# EAGLE library part EPM7032 (library altera)
EPM7032 MAX 7000 family
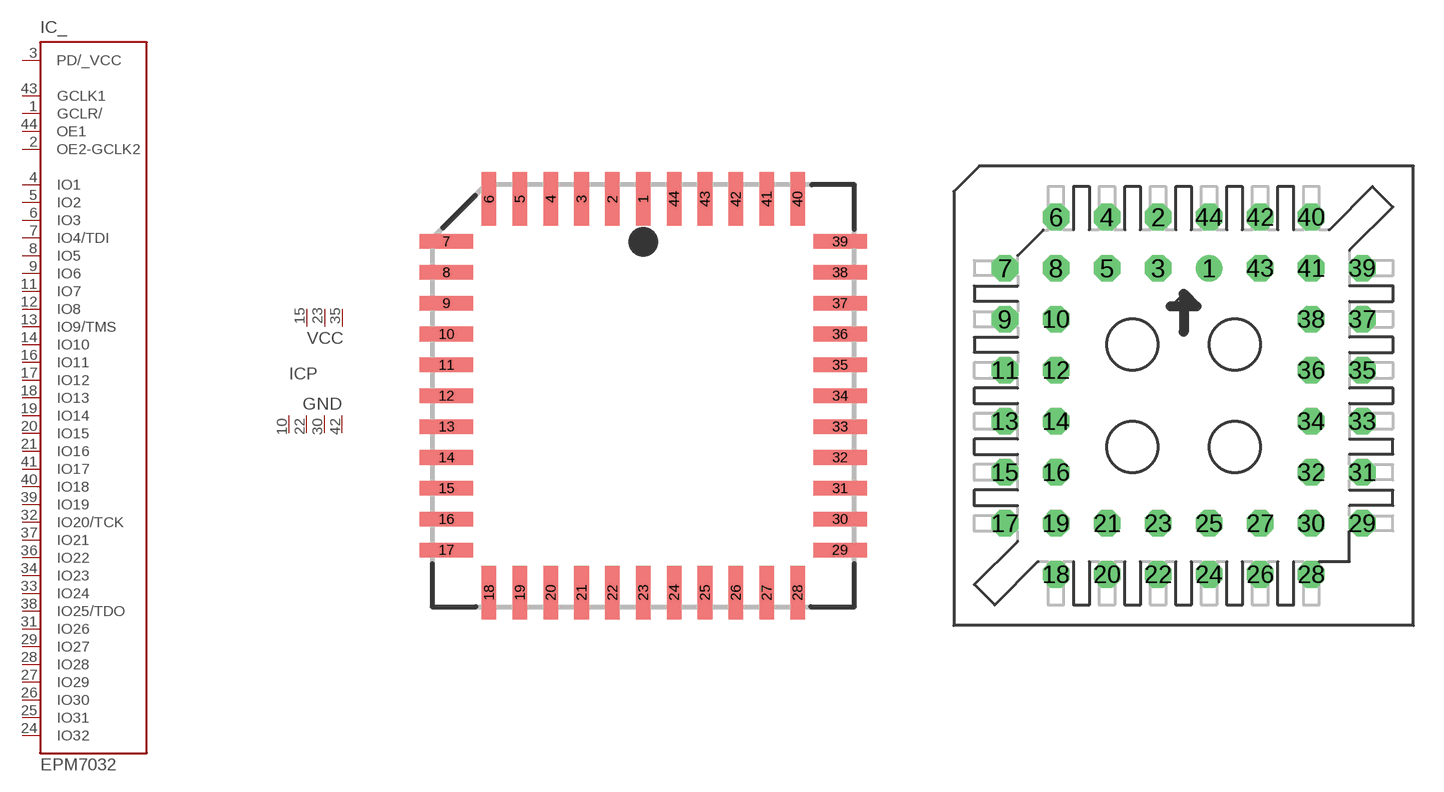
[diagram p0: symbol with the pads of PLCC44; footprints PLCC44, PLCC-S44]

Designator prefix IC; gates _=EPM7032 P=PWR3-4

## EPM7032J44  [PLCC44]
1  _:GCLR/  in
2  _:OE2-GCLK2  in
3  _:PD/_VCC  pas
4  _:IO1
5  _:IO2
6  _:IO3
7  _:IO4/TDI
8  _:IO5
9  _:IO6
10  P:GND  pwr
11  _:IO7
12  _:IO8
13  _:IO9/TMS
14  _:IO10
15  P:VCC  pwr
16  _:IO11
17  _:IO12
18  _:IO13
19  _:IO14
20  _:IO15
21  _:IO16
22  P:GND  pwr
23  P:VCC  pwr
24  _:IO32
25  _:IO31
26  _:IO30
27  _:IO29
28  _:IO28
29  _:IO27
30  P:GND  pwr
31  _:IO26
32  _:IO20/TCK
33  _:IO24
34  _:IO23
35  P:VCC  pwr
36  _:IO22
37  _:IO21
38  _:IO25/TDO
39  _:IO19
40  _:IO18
41  _:IO17
42  P:GND  pwr
43  _:GCLK1  in
44  _:OE1  in

## EPM7032S44  [PLCC-S44]
Pads as for PLCC44

## EPM7032T44  [TQFP44]
1  _:IO4/TDI
2  _:IO5
3  _:IO6
4  P:GND  pwr
5  _:IO7
6  _:IO8
7  _:IO9/TMS
8  _:IO10
9  P:VCC  pwr
10  _:IO11
11  _:IO12
12  _:IO13
13  _:IO14
14  _:IO15
15  _:IO16
16  P:GND  pwr
17  P:VCC  pwr
18  _:IO32
19  _:IO31
20  _:IO30
21  _:IO29
22  _:IO28
23  _:IO27
24  P:GND  pwr
25  _:IO26
26  _:IO20/TCK
27  _:IO24
28  _:IO23
29  P:VCC  pwr
30  _:IO22
31  _:IO21
32  _:IO25/TDO
33  _:IO19
34  _:IO18
35  _:IO17
36  P:GND  pwr
37  _:GCLK1  in
38  _:OE1  in
39  _:GCLR/  in
40  _:OE2-GCLK2  in
41  _:PD/_VCC  pas
42  _:IO1
43  _:IO2
44  _:IO3

## Footprint PLCC44 (pad centres in mm)
Plastic J-Lead Chip Carrier
smd 0.6 x 2.2: 1 0,8.1; 2 -1.27,8.1; 3 -2.54,8.1; 4 -3.81,8.1; 5 -5.08,8.1; 6 -6.35,8.1; 18 -6.35,-8.1; 19 -5.08,-8.1; 20 -3.81,-8.1; 21 -2.54,-8.1; 22 -1.27,-8.1; 23 0,-8.1; 24 1.27,-8.1; 25 2.54,-8.1; 26 3.81,-8.1; 27 5.08,-8.1; 28 6.35,-8.1; 40 6.35,8.1; 41 5.08,8.1; 42 3.81,8.1; 43 2.54,8.1; 44 1.27,8.1
smd 2.2 x 0.6: 7 -8.1,6.35; 8 -8.1,5.08; 9 -8.1,3.81; 10 -8.1,2.54; 11 -8.1,1.27; 12 -8.1,0; 13 -8.1,-1.27; 14 -8.1,-2.54; 15 -8.1,-3.81; 16 -8.1,-5.08; 17 -8.1,-6.35; 29 8.1,-6.35; 30 8.1,-5.08; 31 8.1,-3.81; 32 8.1,-2.54; 33 8.1,-1.27; 34 8.1,0; 35 8.1,1.27; 36 8.1,2.54; 37 8.1,3.81; 38 8.1,5.08; 39 8.1,6.35

## Footprint PLCC-S44 (pad centres in mm)
Plastic Leaded Chip Carrier Socked
drill 0.813 round: 1 1.27,6.35
drill 0.813 octagon: 2 -1.27,8.89; 3 -1.27,6.35; 4 -3.81,8.89; 5 -3.81,6.35; 6 -6.35,8.89; 7 -8.89,6.35; 8 -6.35,6.35; 9 -8.89,3.81; 10 -6.35,3.81; 11 -8.89,1.27; 12 -6.35,1.27; 13 -8.89,-1.27; 14 -6.35,-1.27; 15 -8.89,-3.81; 16 -6.35,-3.81; 17 -8.89,-6.35; 18 -6.35,-8.89; 19 -6.35,-6.35; 20 -3.81,-8.89; 21 -3.81,-6.35; 22 -1.27,-8.89; 23 -1.27,-6.35; 24 1.27,-8.89; 25 1.27,-6.35; 26 3.81,-8.89; 27 3.81,-6.35; 28 6.35,-8.89; 29 8.89,-6.35; 30 6.35,-6.35; 31 8.89,-3.81; 32 6.35,-3.81; 33 8.89,-1.27; 34 6.35,-1.27; 35 8.89,1.27; 36 6.35,1.27; 37 8.89,3.81; 38 6.35,3.81; 39 8.89,6.35; 40 6.35,8.89; 41 6.35,6.35; 42 3.81,8.89; 43 3.81,6.35; 44 1.27,8.89

## Footprint TQFP44 (pad centres in mm)
Plastic Thin Quad Flat Pack
smd 1.5 x 0.5: 1 -5.8,4; 2 -5.8,3.2; 3 -5.8,2.4; 4 -5.8,1.6; 5 -5.8,0.8; 6 -5.8,0; 7 -5.8,-0.8; 8 -5.8,-1.6; 9 -5.8,-2.4; 10 -5.8,-3.2; 11 -5.8,-4; 23 5.8,-4; 24 5.8,-3.2; 25 5.8,-2.4; 26 5.8,-1.6; 27 5.8,-0.8; 28 5.8,0; 29 5.8,0.8; 30 5.8,1.6; 31 5.8,2.4; 32 5.8,3.2; 33 5.8,4
smd 0.5 x 1.5: 12 -4,-5.8; 13 -3.2,-5.8; 14 -2.4,-5.8; 15 -1.6,-5.8; 16 -0.8,-5.8; 17 0,-5.8; 18 0.8,-5.8; 19 1.6,-5.8; 20 2.4,-5.8; 21 3.2,-5.8; 22 4,-5.8; 34 4,5.8; 35 3.2,5.8; 36 2.4,5.8; 37 1.6,5.8; 38 0.8,5.8; 39 0,5.8; 40 -0.8,5.8; 41 -1.6,5.8; 42 -2.4,5.8; 43 -3.2,5.8; 44 -4,5.8